# EAGLE library part DEBUG-CC-PWR (library jetney-silabs-modules)
CC debugger connection with various form factors. 2x5-pin 0.05" pitch header include Pin 9 (VDD) supply connection as separate pin. https://github.com/jrowberg/sf-oshw Last updated 2014-01-04 by Jeff Rowberg <jeff@rowberg.net>
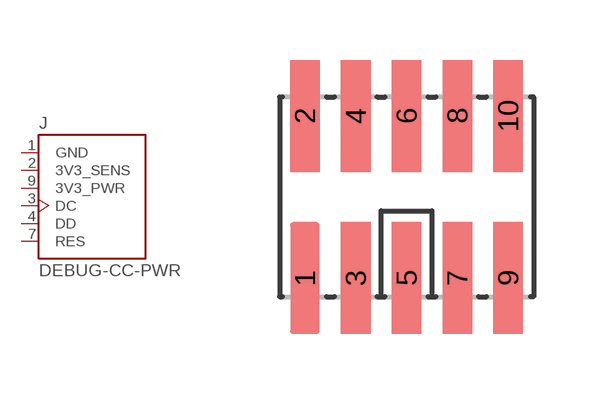
[diagram p16: symbol with the pads of DEBUG-50MIL; footprint DEBUG-50MIL]

Designator prefix J

## DEBUG-CC-PWR  [DEBUG-50MIL]
1  GND  pwr
2  3V3_SENS  pwr
3  DC  out
4  DD
7  RES  out
9  3V3_PWR  pwr

## Footprint DEBUG-50MIL (pad centres in mm)
CC debugger connection using 0.05-inch pitch header. Package design from "pretty-eagle-libs" at https://github.com/esden/pretty-eagle-libs/blob/master/pel_misc.lbr by @esden at Github. (CC-BY-SA-3.0) https://github.com/jrowberg/sf-oshw Last updated 2014-01-04 by Jeff Rowberg <jeff@rowberg.net>
smd 0.74 x 2.8: 1 -2.54,-2.03; 2 -2.54,2.03; 3 -1.27,-2.03; 4 -1.27,2.03; 5 0,-2.03; 6 0,2.03; 7 1.27,-2.03; 8 1.27,2.03; 9 2.54,-2.03; 10 2.54,2.03